# EAGLE library part N5150M8CD (library dynastream-ble-module)
Based on Nordic Semiconductor’s nRF51422 SoC, the N5 ANT SoC module series offers support for both ANT® and Bluetooth® low energy and enables both protocols to run concurrently, depending on the loaded protocol stack.
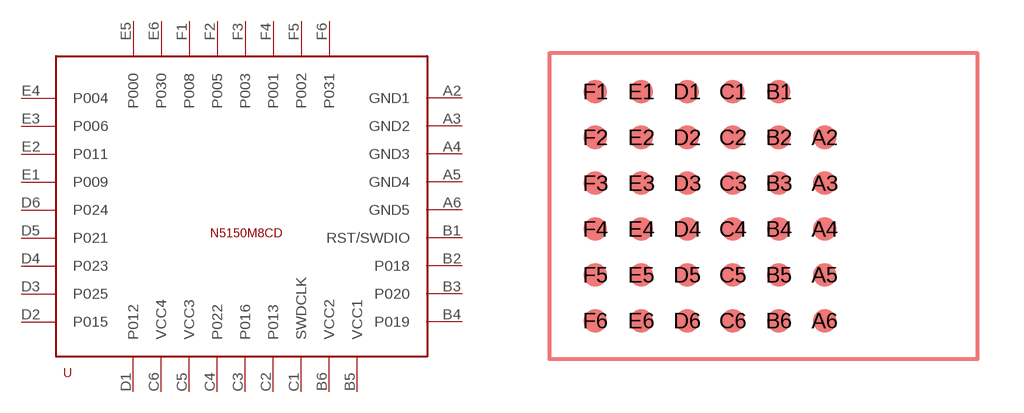
[diagram p0: symbol with the pads of N5-M8; footprint N5-M8]

Designator prefix -

## N5150M8CDM8  [N5-M8]
A2  GND1
A3  GND2
A4  GND3
A5  GND4
A6  GND5
B1  RST/SWDIO
B2  P018
B3  P020
B4  P019
B5  VCC1
B6  VCC2
C1  SWDCLK
C2  P013
C3  P016
C4  P022
C5  VCC3
C6  VCC4
D1  P012
D2  P015
D3  P025
D4  P023
D5  P021
D6  P024
E1  P009
E2  P011
E3  P006
E4  P004
E5  P000
E6  P030
F1  P008
F2  P005
F3  P003
F4  P001
F5  P002
F6  P031

## Footprint N5-M8 (pad centres in mm)
smd 0.762 x 0.762: A2 0,6; A3 0,4.5; A4 0,3; A5 0,1.5; A6 0,0; B1 -1.5,7.5; B2 -1.5,6; B3 -1.5,4.5; B4 -1.5,3; B5 -1.5,1.5; B6 -1.5,0; C1 -3,7.5; C2 -3,6; C3 -3,4.5; C4 -3,3; C5 -3,1.5; C6 -3,0; D1 -4.5,7.5; D2 -4.5,6; D3 -4.5,4.5; D4 -4.5,3; D5 -4.5,1.5; D6 -4.5,0; E1 -6,7.5; E2 -6,6; E3 -6,4.5; E4 -6,3; E5 -6,1.5; E6 -6,0; F1 -7.5,7.5; F2 -7.5,6; F3 -7.5,4.5; F4 -7.5,3; F5 -7.5,1.5; F6 -7.5,0